# Altium integrated library NCV8730.IntLib: 1 symbol
Pins are listed as number, name and electrical type; pins without a type are passive.

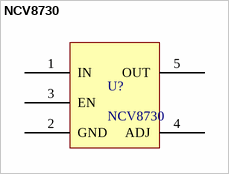
[diagram p0: symbol NCV8730]

## NCV8730
designator U?
footprint NCV8730
pins: 1 IN (power), 2 GND (power), 3 EN, 4 ADJ, 5 OUT (power)